# Altium footprint library SG__PCB_SMD_Connectors.PcbLib: 63 footprints (part 3 of 4)
Each footprint in its own frame and in the unit in brackets; x right, y up, seen from the top. Pads: shape width x height; smd on the part's side, far side on the other; paste and mask are expansions set on the pad; w line width, h text height; cw(c..) or ccw(c..) is an arc to the next point about the centre after c.
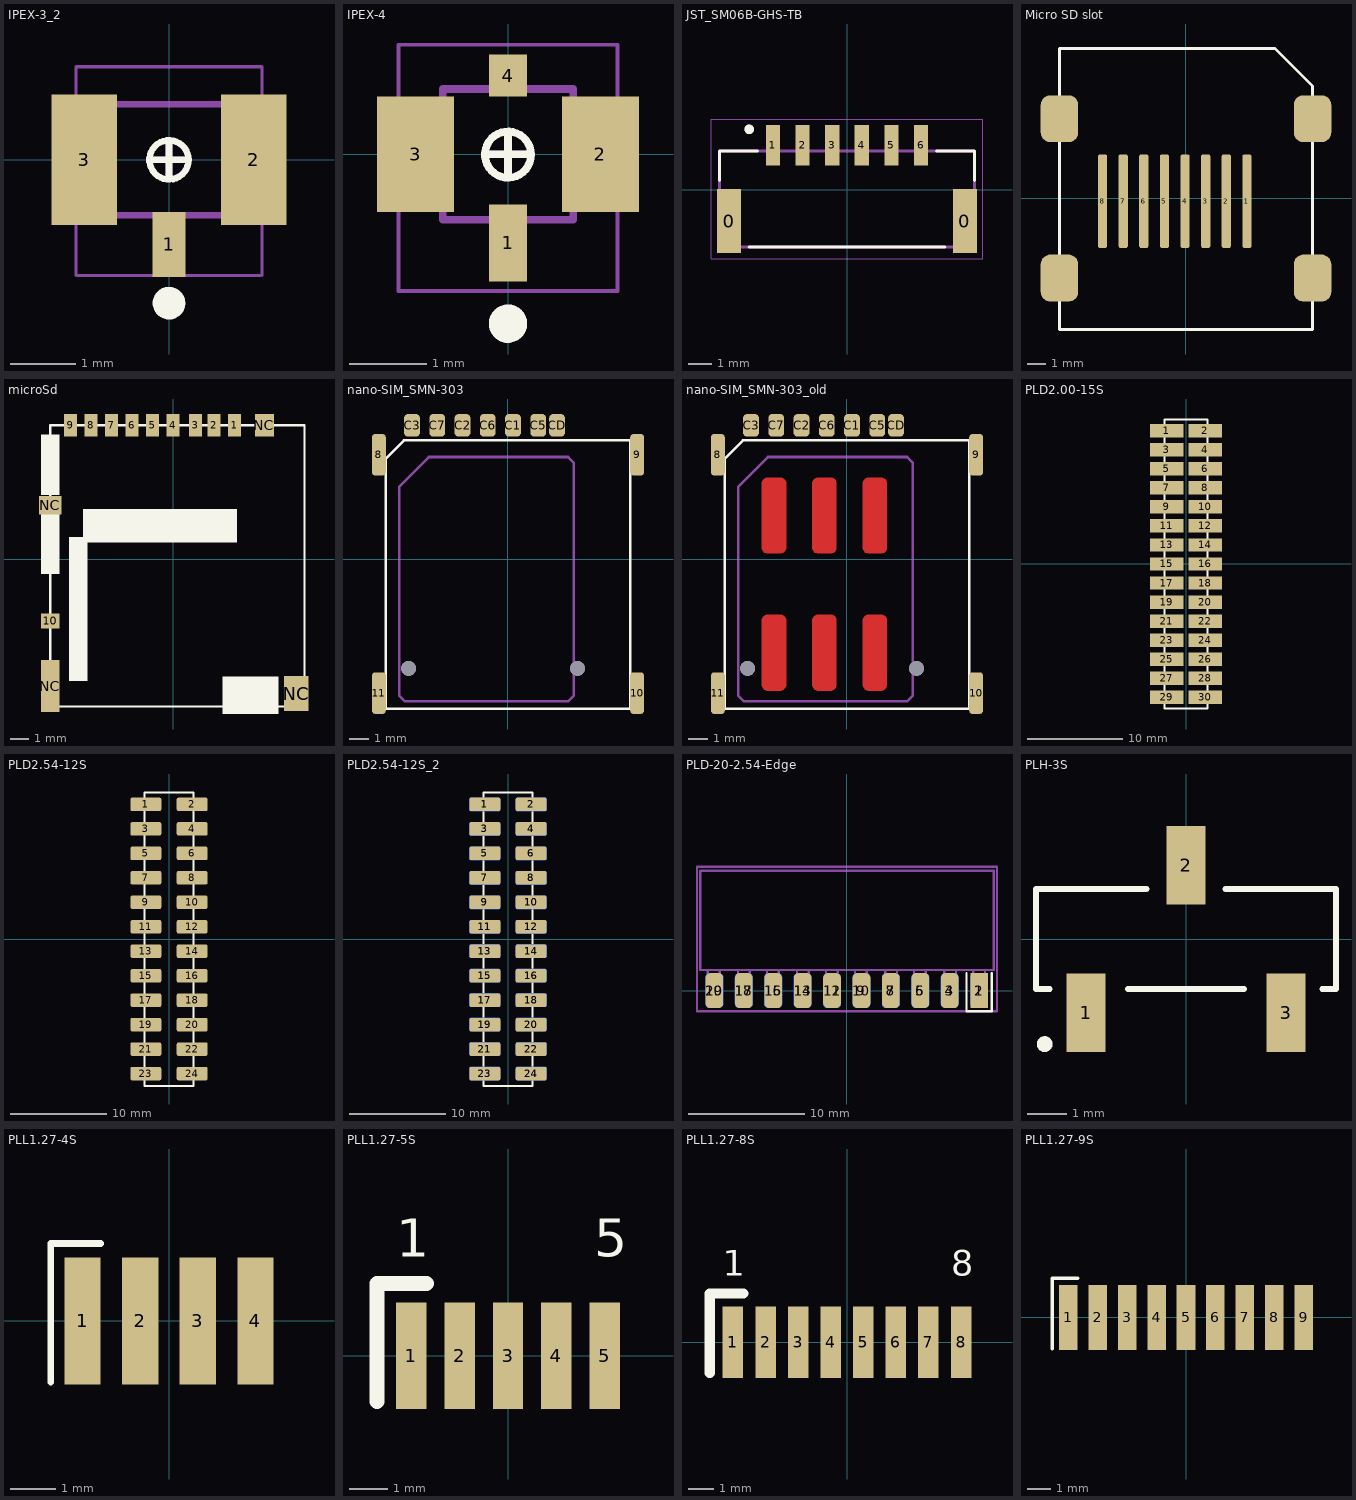
[diagram p2: the footprints below, top view; thin cyan lines are the x and y axes]

## IPEX-3_2 [mm] "Hand Drawn, 4-Leads, Body 1.7x1.7mm"
height 0.85
pads (3):
  rect 0.5x1 smd: 1(0,-1.3)
  rect 1x2 smd: 2(1.3,0) 3(-1.3,0)
Top Overlay:
  circle w0.25: c0,-2.2 r0.125
  circle w0.1: c0,-0.003 r0.3
  lines w0.1: -0.25,0 0.25,0 ; 0,-0.25 0,0.25
Mechanical 13:
  lines w0.1: -0.85,-0.85 -0.85,0.85 0.85,0.85 0.85,-0.85 -0.85,-0.85
Mechanical 15:
  lines w0.05: -1.425,-1.775 -1.425,1.425 ; -1.4,-1.775 1.4,-1.775 ; -1.4,1.425 1.4,1.425 ; 1.425,-1.775 1.425,1.425
  lines w0.1: -0.25,0 0.25,0 ; 0,-0.25 0,0.25
3D body: height 0.85, standoff 0, extent -0.85,-0.85 0.85,0.85

## IPEX-4 [mm] "Hand Drawn, 4-Leads, Body 1.7x1.7mm"
height 0.85
pads (4):
  rect 0.5x1 smd: 1(0,-1.15)
  rect 1x1.5 smd: 2(1.2,0) 3(-1.2,0)
  rect 0.5x0.55 smd: 4(0,1.025)
Top Overlay:
  circle w0.25: c0,-2.2 r0.125
  circle w0.1: c0,-0.003 r0.3
  lines w0.1: -0.25,0 0.25,0 ; 0,-0.25 0,0.25
Mechanical 13:
  lines w0.1: -0.85,-0.85 -0.85,0.85 0.85,0.85 0.85,-0.85 -0.85,-0.85
Mechanical 15:
  lines w0.05: -1.425,-1.775 -1.425,1.425 ; -1.4,-1.775 1.4,-1.775 ; -1.4,1.425 1.4,1.425 ; 1.425,-1.775 1.425,1.425
  lines w0.1: -0.25,0 0.25,0 ; 0,-0.25 0,0.25
3D body: height 0.85, standoff 0, extent -0.85,-0.85 0.85,0.85

## JST_SM06B-GHS-TB [mm] "Connector Header Surface Mount, Right Angle 6 position 1.25mm"
height 4.25
pads (8):
  rect 1x2.7 smd: 0(-4.975,-1.325) 0(4.975,-1.325)
  rect 0.6x1.7 smd: 1(-3.125,1.875) 2(-1.875,1.875) 3(-0.625,1.875) 4(0.625,1.875) 5(1.875,1.875) 6(3.125,1.875)
Top Overlay:
  circle w0.2: c-4.125,2.54 r0.1
  lines w0.127: -5.375,0.375 -5.375,1.625 -3.775,1.625 ; -4.125,-2.425 4.125,-2.425 ; 3.775,1.625 5.375,1.625 5.375,0.375
Top Assembly:
  lines w0.127: -5.375,-2.425 -5.375,1.625 5.375,1.625 5.375,-2.425 -5.375,-2.425
Top Courtyard:
  lines w0.05: -5.725,-2.925 5.725,-2.925 5.725,2.975 -5.725,2.975 -5.725,-2.925
Mechanical 13:
  circle w0.2: c-4.125,2.54 r0.1
3D body "step_temp.STEP": height 4.25, standoff 0, extent -5.375,-2.048 5.375,2.802

## Micro SD slot [mm]
height 2
pads (12):
  rrect50% 0.5x5 smd: 1(3.25,-0.15) 2(2.15,-0.15) 3(1.05,-0.15) 4(-0.05,-0.15) 5(-1.15,-0.15) 6(-2.25,-0.15) 7(-3.35,-0.15) 8(-4.45,-0.15)
  rrect50% 2x2.5 smd: ""(-6.75,-4.25) ""(-6.75,4.25) ""(6.75,-4.25) ""(6.75,4.25)
Top Overlay:
  lines w0.152: 4.75,8 6.75,6 ; 4.75,8 -6.75,8 -6.75,-7 6.75,-7 6.75,6 ; 4.75,8 6.75,6
3D body: height 2, standoff 0.2, extent -6.75,-7 6.75,8

## microSd [mm]
pads (14):
  rect 0.7x1.2 smd: 1(3.3,7.2) 2(2.2,7.2) 3(1.2,7.2) 4(0,7.2) 5(-1.1,7.2) 6(-2.2,7.2) 7(-3.3,7.2) 8(-4.4,7.2) 9(-5.5,7.2)
  rect 1x0.8 smd mask+0.102: 10(-6.6,-3.3)
  rect 1x2.8 smd mask+0.102: NC(-6.6,-6.8)
  rect 1.2x1 smd mask+0.102: NC(-6.6,2.9)
  rect 1x1.2 smd: NC(4.9,7.2)
  rect 1.3x1.9 smd: NC(6.6,-7.2)
Top Overlay:
  rectangle: -7.1,-0.8 -6.1,2.45
  rectangle: -7.1,3.45 -6.1,6.692
  rectangle: 2.65,-8.3 5.65,-6.3
  rectangle: -5.6,-6.516 -4.6,1.2
  rectangle: -4.85,0.9 3.433,2.7
  lines w0.127: 7.05,-7.9 -6.6,-7.9 -6.6,7.2 7.05,7.2 7.05,-7.85

## nano-SIM_SMN-303 [mm]
height 1.37
pads (19):
  rrect50% 0.7x2.1 smd: 8(-6.5,5.26) 9(6.5,5.26) 10(6.5,-6.74) 11(-6.5,-6.74)
  rrect50% 0.8x1.14 smd: C1(0.25,6.74) C2(-2.29,6.74) C3(-4.83,6.74) C5(1.52,6.74) C6(-1.02,6.74) C7(-3.56,6.74) CD(2.47,6.74)
  round 0.75 hole 0.75 unplated: ""(-5,-5.49) ""(3.5,-5.49)
  rrect50% 1.2x3.8 on Top Overlay paste+0 mask+0: ""(-3.679,-4.705) ""(-3.679,2.195) ""(-1.154,-4.705) ""(-1.154,2.195) ""(1.396,-4.705) ""(1.396,2.195)
Top Overlay:
  lines w0.127: -6.15,-7.515 -6.15,5.069 -5.234,5.985 6.15,5.985 6.15,-7.515 -6.15,-7.515
Mechanical 1:
  lines w0.127: -5.479,-6.855 -5.179,-7.155 3.021,-7.155 3.321,-6.855 3.321,4.845 3.021,5.145 -3.979,5.145 -5.479,3.645 -5.479,-6.855
3D body: height 1.37, standoff 0, extent -6.143,-7.522 6.157,5.978

## nano-SIM_SMN-303_old [mm]
height 1.37
pads (19):
  rrect50% 0.7x2.1 smd: 8(-6.5,5.26) 9(6.5,5.26) 10(6.5,-6.74) 11(-6.5,-6.74)
  rrect50% 0.8x1.14 smd: C1(0.25,6.74) C2(-2.29,6.74) C3(-4.83,6.74) C5(1.52,6.74) C6(-1.02,6.74) C7(-3.56,6.74) CD(2.47,6.74)
  round 0.75 hole 0.75 unplated: ""(-5,-5.49) ""(3.5,-5.49)
  rrect50% 1.2x3.8 on Top Overlay paste+0 mask+0: ""(-3.679,-4.705) ""(-3.679,2.195) ""(-1.154,-4.705) ""(-1.154,2.195) ""(1.396,-4.705) ""(1.396,2.195)
Top Layer:
  pour cut-out: -0.834,-6.608 -0.774,-6.608 -0.662,-6.561 -0.576,-6.475 -0.53,-6.363 -0.53,-6.303 -0.53,-3.077 -0.53,-3.021 -0.572,-2.919 -0.651,-2.84 -0.753,-2.798 -0.809,-2.798 -1.469,-2.798 -1.525,-2.798 -1.628,-2.84 -1.706,-2.919 -1.749,-3.021 -1.749,-3.077 -1.749,-6.303 -1.749,-6.363 -1.702,-6.475 -1.617,-6.561 -1.505,-6.608 -1.444,-6.608
  pour cut-out: 1.706,-6.608 1.766,-6.608 1.878,-6.561 1.964,-6.475 2.01,-6.363 2.01,-6.303 2.01,-3.077 2.01,-3.021 1.968,-2.919 1.889,-2.84 1.787,-2.798 1.731,-2.798 1.071,-2.798 1.015,-2.798 0.912,-2.84 0.834,-2.919 0.791,-3.021 0.791,-3.077 0.791,-6.303 0.791,-6.363 0.838,-6.475 0.923,-6.561 1.035,-6.608 1.096,-6.608
  pour cut-out: 1.706,0.292 1.766,0.292 1.878,0.339 1.964,0.425 2.01,0.537 2.01,0.597 2.01,3.823 2.01,3.879 1.968,3.981 1.889,4.06 1.787,4.102 1.731,4.102 1.071,4.102 1.015,4.102 0.912,4.06 0.834,3.981 0.791,3.879 0.791,3.823 0.791,0.597 0.791,0.537 0.838,0.425 0.923,0.339 1.035,0.292 1.096,0.292
  pour cut-out: -0.834,0.292 -0.774,0.292 -0.662,0.339 -0.576,0.425 -0.53,0.537 -0.53,0.597 -0.53,3.823 -0.53,3.879 -0.572,3.981 -0.651,4.06 -0.753,4.102 -0.809,4.102 -1.469,4.102 -1.525,4.102 -1.628,4.06 -1.706,3.981 -1.749,3.879 -1.749,3.823 -1.749,0.597 -1.749,0.537 -1.702,0.425 -1.617,0.339 -1.505,0.292 -1.444,0.292
  pour cut-out: -3.374,0.292 -3.314,0.292 -3.202,0.339 -3.116,0.425 -3.07,0.537 -3.07,0.597 -3.07,3.823 -3.07,3.879 -3.112,3.981 -3.191,4.06 -3.293,4.102 -3.349,4.102 -4.009,4.102 -4.065,4.102 -4.168,4.06 -4.246,3.981 -4.289,3.879 -4.289,3.823 -4.289,0.597 -4.289,0.537 -4.242,0.425 -4.157,0.339 -4.045,0.292 -3.984,0.292
  pour cut-out: -3.374,-6.608 -3.314,-6.608 -3.202,-6.561 -3.116,-6.475 -3.07,-6.363 -3.07,-6.303 -3.07,-3.077 -3.07,-3.021 -3.112,-2.919 -3.191,-2.84 -3.293,-2.798 -3.349,-2.798 -4.009,-2.798 -4.065,-2.798 -4.168,-2.84 -4.246,-2.919 -4.289,-3.021 -4.289,-3.077 -4.289,-6.303 -4.289,-6.363 -4.242,-6.475 -4.157,-6.561 -4.045,-6.608 -3.984,-6.608
Top Overlay:
  lines w0.127: -6.15,-7.515 6.15,-7.515 6.15,5.985 -5.234,5.985 -6.15,5.069 -6.15,-7.515
Mechanical 1:
  lines w0.127: -5.479,-6.855 -5.479,3.645 -3.979,5.145 3.021,5.145 3.321,4.845 3.321,-6.855 3.021,-7.155 -5.179,-7.155 -5.479,-6.855
3D body: height 1.37, standoff 0, extent -6.143,-7.522 6.157,5.978

## PLD2.00-15S [mm]
pads (30):
  rect 3.498x1.4 smd: 1(-2.031,14) 2(2.031,14) 3(-2.031,12) 4(2.031,12) 5(-2.031,10) 6(2.031,10) 7(-2.031,8) 8(2.031,8) 9(-2.031,6) 10(2.031,6) 11(-2.031,4) 12(2.031,4) 13(-2.031,2) 14(2.031,2) 15(-2.031,0) 16(2.031,0) 17(-2.031,-2) 18(2.031,-2) 19(-2.031,-4) 20(2.031,-4) 21(-2.031,-6) 22(2.031,-6) 23(-2.031,-8) 24(2.031,-8) 25(-2.031,-10) 26(2.031,-10) 27(-2.031,-12) 28(2.031,-12) 29(-2.031,-14) 30(2.031,-14)
Top Overlay:
  lines w0.2: -2.271,-15.17 2.271,-15.17 2.271,15.17 -2.271,15.17 -2.271,-15.17

## PLD2.54-12S [mm]
pads (24):
  rrect25% 3.2x1.4 smd: 1(-2.4,13.97) 2(2.4,13.97) 3(-2.4,11.43) 4(2.4,11.43) 5(-2.4,8.89) 6(2.4,8.89) 7(-2.4,6.35) 8(2.4,6.35) 9(-2.4,3.81) 10(2.4,3.81) 11(-2.4,1.27) 12(2.4,1.27) 13(-2.4,-1.27) 14(2.4,-1.27) 15(-2.4,-3.81) 16(2.4,-3.81) 17(-2.4,-6.35) 18(2.4,-6.35) 19(-2.4,-8.89) 20(2.4,-8.89) 21(-2.4,-11.43) 22(2.4,-11.43) 23(-2.4,-13.97) 24(2.4,-13.97)
Top Overlay:
  lines w0.2: -2.54,-15.27 -2.54,15.21 2.54,15.21 2.54,-15.27 -2.54,-15.27

## PLD2.54-12S_2 [mm]
pads (48):
  rrect25% 3.2x1.4 smd far side: 1(-2.4,13.97) 2(2.4,13.97) 3(-2.4,11.43) 4(2.4,11.43) 5(-2.4,8.89) 6(2.4,8.89) 7(-2.4,6.35) 8(2.4,6.35) 9(-2.4,3.81) 10(2.4,3.81) 11(-2.4,1.27) 12(2.4,1.27) 13(-2.4,-1.27) 14(2.4,-1.27) 15(-2.4,-3.81) 16(2.4,-3.81) 17(-2.4,-6.35) 18(2.4,-6.35) 19(-2.4,-8.89) 20(2.4,-8.89) 21(-2.4,-11.43) 22(2.4,-11.43) 23(-2.4,-13.97) 24(2.4,-13.97)
  rrect25% 3.2x1.4 smd: 1(-2.4,13.97) 2(2.4,13.97) 3(-2.4,11.43) 4(2.4,11.43) 5(-2.4,8.89) 6(2.4,8.89) 7(-2.4,6.35) 8(2.4,6.35) 9(-2.4,3.81) 10(2.4,3.81) 11(-2.4,1.27) 12(2.4,1.27) 13(-2.4,-1.27) 14(2.4,-1.27) 15(-2.4,-3.81) 16(2.4,-3.81) 17(-2.4,-6.35) 18(2.4,-6.35) 19(-2.4,-8.89) 20(2.4,-8.89) 21(-2.4,-11.43) 22(2.4,-11.43) 23(-2.4,-13.97) 24(2.4,-13.97)
Top Overlay:
  lines w0.2: -2.54,-15.27 2.54,-15.27 2.54,15.21 -2.54,15.21 -2.54,-15.27
3D body: height 9.3, standoff 0, extent -1.143,-14.478 1.27,14.478
3D body: height 9.1, standoff 0, extent -2.54,-15.265 2.54,15.215
3D body: height 3.3, standoff 0, extent -2.54,-15.265 2.54,15.215

## PLD-20-2.54-Edge [mm]
pads (20):
  rect 1.524x3 smd: 1(11.43,0)
  rrect50% 1.524x3 smd far side: 2(11.43,0) 4(8.89,0) 6(6.35,0) 8(3.81,0) 10(1.27,0) 12(-1.27,0) 14(-3.81,0) 16(-6.35,0) 18(-8.89,0) 20(-11.43,0)
  rrect50% 1.524x3 smd: 3(8.89,0) 5(6.35,0) 7(3.81,0) 9(1.27,0) 11(-1.27,0) 13(-3.81,0) 15(-6.35,0) 17(-8.89,0) 19(-11.43,0)
Top Overlay:
  lines w0.2: 10.33,1.5 10.33,-1.8 12.53,-1.8 12.53,1.5
Top Assembly:
  lines w0.2: -11.991,1.67 -11.991,-1.3 -10.97,-1.3 -10.97,1.67 ; -9.391,1.77 -9.391,-1.2 -8.37,-1.2 -8.37,1.77 ; -6.891,1.77 -6.891,-1.2 -5.87,-1.2 -5.87,1.77 ; -4.291,1.77 -4.291,-1.2 -3.27,-1.2 -3.27,1.77 ; -1.791,1.77 -1.791,-1.2 -0.77,-1.2 -0.77,1.77 ; 0.709,1.77 0.709,-1.2 1.73,-1.2 1.73,1.77 ; 3.309,1.77 3.309,-1.2 4.33,-1.2 4.33,1.77 ; 5.809,1.77 5.809,-1.2 6.83,-1.2 6.83,1.77 ; 8.409,1.77 8.409,-1.2 9.43,-1.2 9.43,1.77 ; 10.909,1.77 10.909,-1.2 11.93,-1.2 11.93,1.77 11.96,1.77 ; -12.651,1.77 -12.651,10.342 12.699,10.342 12.699,1.77 -12.651,1.77
Bottom Assembly:
  lines w0.2: -11.991,1.67 -11.991,-1.3 -10.97,-1.3 -10.97,1.67 ; -9.391,1.77 -9.391,-1.2 -8.37,-1.2 -8.37,1.77 ; -6.891,1.77 -6.891,-1.2 -5.87,-1.2 -5.87,1.77 ; -4.291,1.77 -4.291,-1.2 -3.27,-1.2 -3.27,1.77 ; -1.791,1.77 -1.791,-1.2 -0.77,-1.2 -0.77,1.77 ; 0.709,1.77 0.709,-1.2 1.73,-1.2 1.73,1.77 ; 3.309,1.77 3.309,-1.2 4.33,-1.2 4.33,1.77 ; 5.809,1.77 5.809,-1.2 6.83,-1.2 6.83,1.77 ; 8.409,1.77 8.409,-1.2 9.43,-1.2 9.43,1.77 ; 10.909,1.77 10.909,-1.2 11.93,-1.2 11.93,1.77 11.96,1.77 ; -12.651,1.77 -12.651,10.342 12.699,10.342 12.699,1.77 -12.651,1.77
Top Courtyard:
  lines w0.2: -12.93,-1.8 -12.93,10.7 12.97,10.7 12.97,-1.8 -12.93,-1.8
Bottom Courtyard:
  lines w0.2: -12.93,-1.8 -12.93,10.7 12.97,10.7 12.97,-1.8 -12.93,-1.8
3D body "PBS1-2.54.stp": height 2.54, standoff 0, extent 10.18,-1.264 12.72,10.386
3D body "PBS1-2.54.stp": height 2.54, standoff 0, extent 7.64,-1.264 10.18,10.386
3D body "PBS1-2.54.stp": height 2.54, standoff 0, extent 5.1,-1.264 7.64,10.386
3D body "PBS1-2.54.stp": height 2.54, standoff 0, extent 2.56,-1.264 5.1,10.386
3D body "PBS1-2.54.stp": height 2.54, standoff 0, extent 0.02,-1.264 2.56,10.386
3D body "PBS1-2.54.stp": height 2.54, standoff 0, extent -2.52,-1.264 0.02,10.386
3D body "PBS1-2.54.stp": height 2.54, standoff 0, extent -5.06,-1.264 -2.52,10.386
3D body "PBS1-2.54.stp": height 2.54, standoff 0, extent -7.6,-1.264 -5.06,10.386
3D body "PBS1-2.54.stp": height 2.54, standoff 0, extent -10.14,-1.264 -7.6,10.386
3D body "PBS1-2.54.stp": height 2.54, standoff 0, extent -12.68,-1.264 -10.14,10.386
3D body "PBS1-2.54.stp": height 0, standoff -2.54, extent 7.64,-1.264 10.18,10.386
3D body "PBS1-2.54.stp": height 0, standoff -2.54, extent 10.18,-1.264 12.72,10.386
3D body "PBS1-2.54.stp": height 0, standoff -2.54, extent 2.56,-1.264 5.1,10.386
3D body "PBS1-2.54.stp": height 0, standoff -2.54, extent 5.1,-1.264 7.64,10.386
3D body "PBS1-2.54.stp": height 0, standoff -2.54, extent 0.02,-1.264 2.56,10.386
3D body "PBS1-2.54.stp": height 0, standoff -2.54, extent -2.52,-1.264 0.02,10.386
3D body "PBS1-2.54.stp": height 0, standoff -2.54, extent -5.06,-1.264 -2.52,10.386
3D body "PBS1-2.54.stp": height 0, standoff -2.54, extent -7.6,-1.264 -5.06,10.386
3D body "PBS1-2.54.stp": height 0, standoff -2.54, extent -10.14,-1.264 -7.6,10.386
3D body "PBS1-2.54.stp": height 0, standoff -2.54, extent -12.68,-1.264 -10.14,10.386

## PLH-3S [mm]
pads (3):
  rect 1x2 smd mask+0.07: 1(-2.54,-1.87) 2(0,1.87) 3(2.54,-1.87)
Top Overlay:
  circle w0.2: c-3.59,-2.67 r0.1
  lines w0.15: -3.46,-1.27 -3.81,-1.27 -3.81,1.27 -1,1.27 ; -1.47,-1.27 1.47,-1.27 ; 1,1.27 3.81,1.27 3.81,-1.27 3.46,-1.27

## PLL1.27-4S [mm]
pads (4):
  rect 0.8x2.8 smd mask+0.05: 1(-1.905,0) 2(-0.635,0) 3(0.635,0) 4(1.905,0)
Top Overlay:
  lines w0.15: -2.605,-1.35 -2.605,1.7 -1.505,1.7

## PLL1.27-5S [mm]
pads (5):
  rect 0.8x2.8 smd mask+0.05: 1(-2.54,0) 2(-1.27,0) 3(0,0) 4(1.27,0) 5(2.54,0)
Top Overlay:
  lines w0.4: -3.44,-1.2 -3.44,1.9 -2.14,1.9
  text "1" at -2.94,2.6 h1
  text "5" at 2.26,2.6 h1

## PLL1.27-8S [mm]
pads (8):
  rect 0.8x2.8 smd mask+0.05: 1(-4.445,0) 2(-3.175,0) 3(-1.905,0) 4(-0.635,0) 5(0.635,0) 6(1.905,0) 7(3.175,0) 8(4.445,0)
Top Overlay:
  lines w0.4: -5.345,-1.2 -5.345,1.9 -4.045,1.9
  text "1" at -4.845,2.6 h1
  text "8" at 4.055,2.6 h1

## PLL1.27-9S [mm]
pads (9):
  rect 0.8x2.8 smd mask+0.05: 1(-5.08,0) 2(-3.81,0) 3(-2.54,0) 4(-1.27,0) 5(0,0) 6(1.27,0) 7(2.54,0) 8(3.81,0) 9(5.08,0)
Top Overlay:
  lines w0.15: -5.78,-1.35 -5.78,1.7 -4.68,1.7